# EAGLE library part LED-TRICOLOR-5050 (library blinkinlabs)
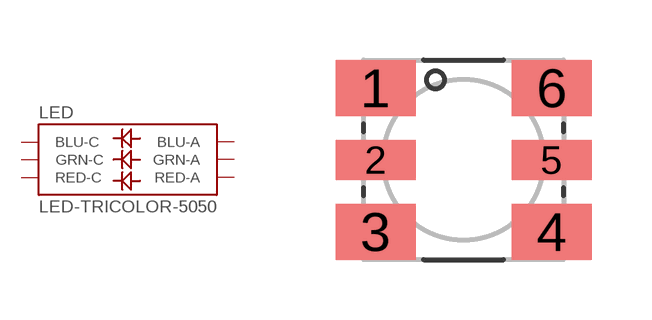
[diagram p1: symbol with the pads of LED-TRICOLOR-5050-FIXED; footprint LED-TRICOLOR-5050-FIXED]

Designator prefix LED

## LED-TRICOLOR-5050"  [LED-TRICOLOR-5050-FIXED]
1  BLU-C
2  RED-C
3  GRN-C
4  GRN-A
5  RED-A
6  BLU-A

## Footprint LED-TRICOLOR-5050-FIXED (pad centres in mm)
smd 2 x 1.4: 1 -2.2,1.8; 3 -2.2,-1.8; 4 2.2,-1.8; 6 2.2,1.8
smd 2 x 1: 2 -2.2,0; 5 2.2,0